# Altium schematic symbol library Schlib.SchLib: 15 symbols
Pins are listed as number, name and electrical type; pins without a type are passive.

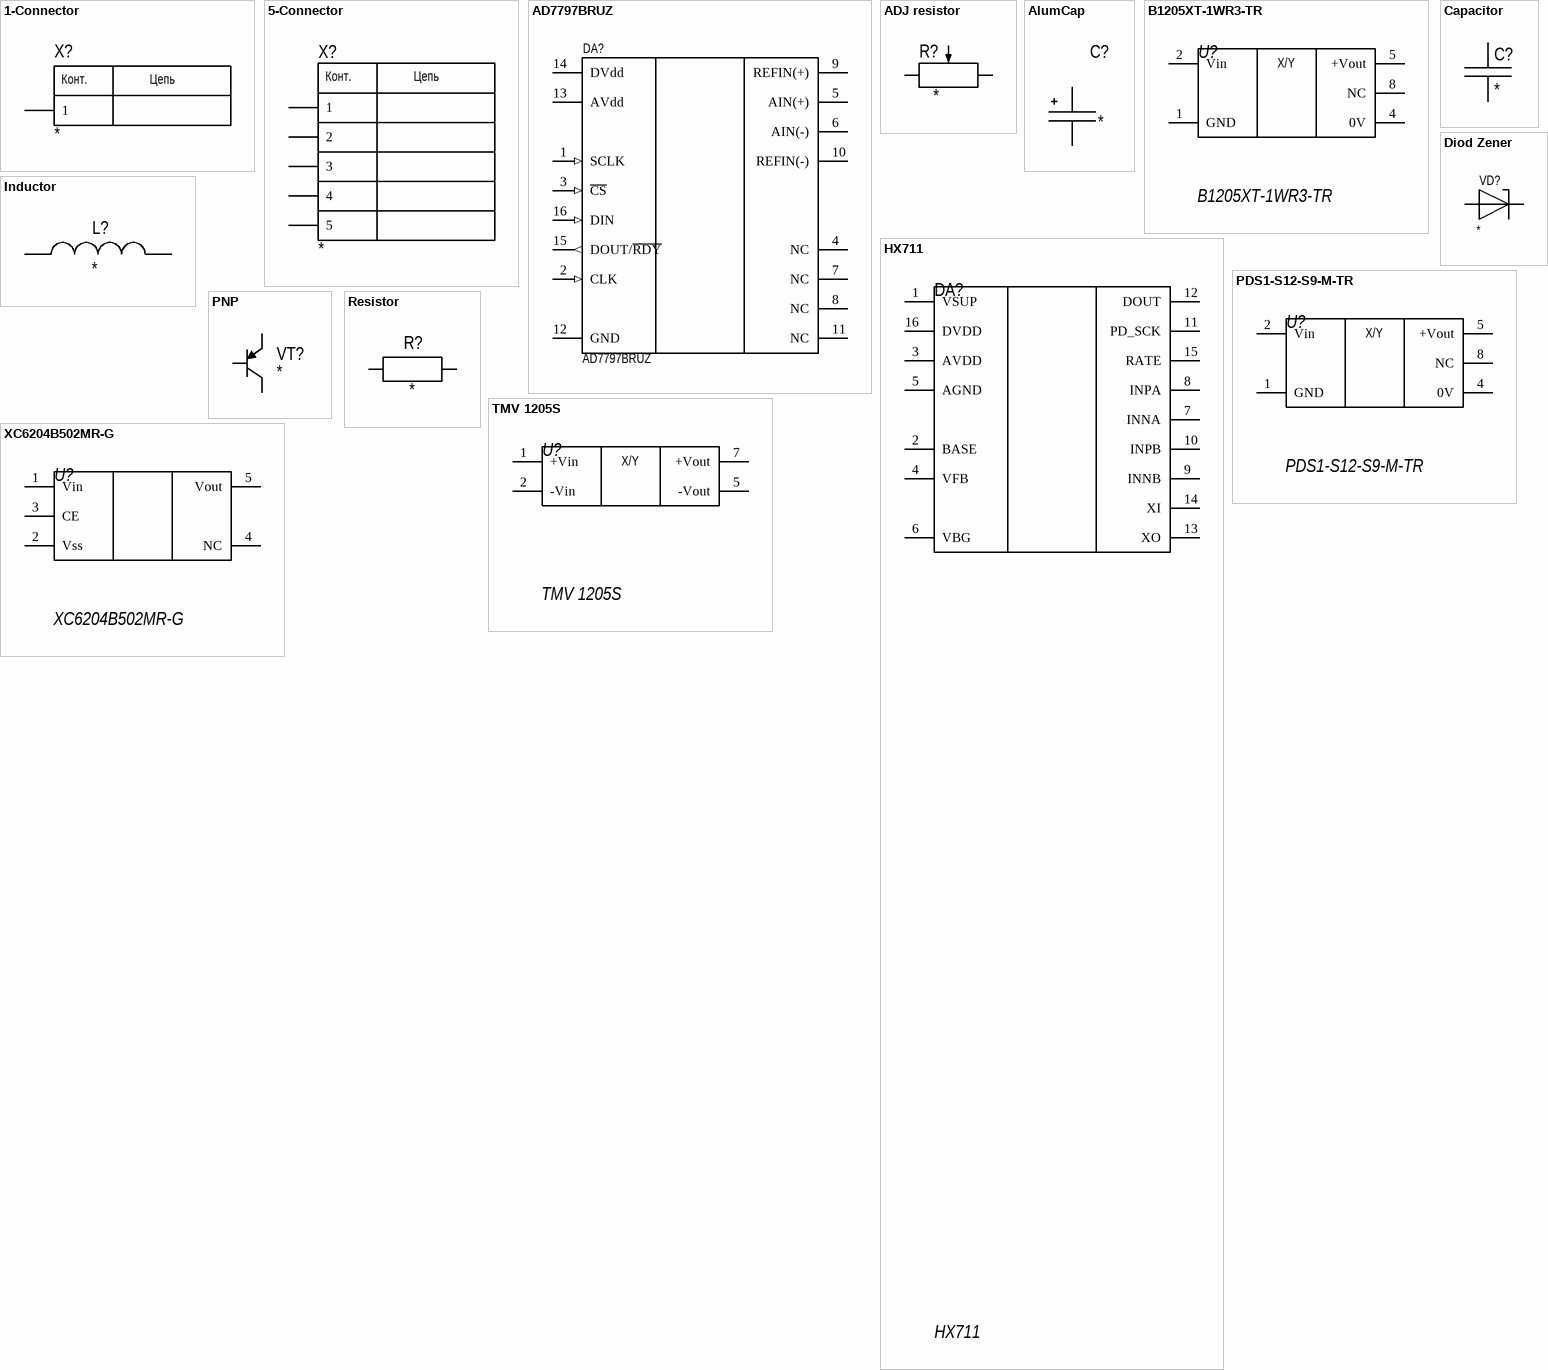
[diagram p0: symbols 1-Connector to XC6204B502MR-G]

## 1-Connector
designator X?
Model: *; Manufacturer: *; HelpURL: *; ComponentKind: *
footprint CON: PADS 1x1mm
pins: 1
text: Конт.; Цепь

## 5-Connector
designator X?
Model: *; Manufacturer: *; HelpURL: *; ComponentKind: *
footprint CON: 796690-5 (5 Position Wire to Board Terminal Block 45°)
pins: 1, 2, 3 (power), 4 (power), 5 (power)
text: Конт.; Цепь

## AD7797BRUZ
designator DA?
ADC 24BIT SIGMA-DELTA; Manufacturer: Analog Devices Inc.; Model: AD7797BRUZ; ComponentKind: 16-TSSOP; HelpURL: https://www.digikey.com/en/products/detail/analog-devices-inc/AD7797BRUZ/1166667
footprint 16-TSSOP
pins: 1 SCLK (in), 2 CLK (in), 3 ~{CS} (in), 4 NC, 5 AIN(+), 6 AIN(-), 7 NC, 8 NC, 9 REFIN(+), 10 REFIN(-), 11 NC, 12 GND (power), 13 AVdd (power), 14 DVdd (power), 15 DOUT/~{RDY} (out), 16 DIN (in)

## ADJ resistor
designator R?
Manufacturer: *; Model: *; HelpURL: *; ComponentKind: *; Value: *
footprint RES: 3296W
footprint RES: 3306F
footprint RES: 3314G
footprint RES: 3362P
footprint RES: B50K
pins: 1, 2, 3

## AlumCap
designator C?
Manufacturer: *; Model: *; HelpURL: *; ComponentKind: *; Value: *
footprint D4C5.1H6
footprint D5C2H11 (Polar capacitor, diameter 5 mm, leads clearance 2 mm, height 11 mm)
footprint D6.3C2.5H11 (Polar capacitor, diameter 6.3 mm, leads clearance 2.5 mm, height 11 mm)
footprint D6.3C2.5H16 (Polar capacitor, diameter 6.3 mm, leads clearance 2.5 mm, height 11 mm)
footprint D6.6C6.6H6.1
footprint D8C3.5H12 (Polar capacitor, diameter 8 mm, leads clearance 3.5 mm, height 12 mm)
footprint D8C3.5H12 (90) (Polar capacitor, diameter 8 mm, leads clearance 3.5 mm, height 12 mm)
footprint D8C6.8H12
footprint D10C4.4H10
footprint D10C5H12.5 (Polar capacitor, diameter 10 mm, leads clearance 5 mm, height 12.5 mm)
footprint D10C5H16 (Polar capacitor, diameter 10 mm, leads clearance 5 mm, height 16 mm)
footprint D10C5H20 (Polar capacitor, diameter 10 mm, leads clearance 5 mm, height 20 mm)
footprint D13C5H20 (Polar capacitor, diameter 13 mm, leads clearance 5 mm, height 20 mm)
footprint D13C5H25 (Polar capacitor, diameter 13 mm, leads clearance 5 mm, height 25 mm)
footprint D16C7.5H25 (Polar capacitor, diameter 16 mm, leads clearance 7.5 mm, height 25 mm)
footprint D16C7.5H31.5 (Polar capacitor, diameter 16 mm, leads clearance 7.5 mm, height 31.5 mm)
footprint D18C7.5H40
footprint D18C7.5H41 (Polar capacitor, diameter 16 mm, leads clearance 7.5 mm, height 31.5 mm)
footprint D22C10.5H25
footprint D25C10H32
footprint D30C10.5H37
footprint D30C10.5H47
footprint D35C10.5H40
footprint D35C10.5H50
pins: 1, 2

## B1205XT-1WR3-TR
designator U?
Isolated Module DC DC Converter 1 Output 5V - - - 200mA 10.8V - 13.2V Input; Manufacturer: Mornsun America, LLC; Model: B1205XT-1WR3-TR; HelpURL: https://www.digikey.com/en/products/detail/mornsun-america-llc/B1205XT-1WR3-TR/13968697; Supplier 1: Digi-Key; Supplier Part Number 1: 2725-B1205XT-1WR3-TRCT-ND
footprint B1205XT-1WR3-TR (DC DC CONVERTER 5V 1W)
pins: 1 GND (power), 2 Vin (power), 4 0V, 5 +Vout, 8 NC
text: X/Y

## Capacitor
designator C?
Manufacturer: *; Model: *; HelpURL: *; ComponentKind: *; Value: *
footprint CH0201C
footprint CH0402C
footprint CH0603C (Chip Capacitor, 2-Leads, Body 1,53x0,85mm, IPC Medium Density)
footprint CH0805C (Chip Capacitor, 2-Leads, Body 2,00x1,20mm, IPC Medium Density)
footprint CH1206C (Non polar chip capacitor, size 1206)
footprint CH1210C (Non polar chip capacitor, size 1210)
footprint CH1812C
footprint CH2220C
pins: 1, 2

## Diod Zener
designator VD?
ComponentKind: *; Manufacturer: *; Model: *; HelpURL: *
footprint SOD-882
pins: 1 A, 2 C

## HX711
designator DA?
ADC for Weigh Scales; Manufacturer: Avia Semiconductors; Model: HX711; ComponentKind: SMD
footprint 16-SOP
pins: 1 VSUP, 2 BASE, 3 AVDD, 4 VFB, 5 AGND, 6 VBG, 7 INNA, 8 INPA, 9 INNB, 10 INPB, 11 PD_SCK, 12 DOUT, 13 XO, 14 XI, 15 RATE, 16 DVDD

## Inductor
designator L?
Manufacturer: *; Model: *; HelpURL: *; ComponentKind: *; Value: *
footprint CH0201L
footprint CH0402L
footprint CH0603L
footprint CH0805L
footprint CH1206F (Chip Resistor, Body 3.2x1.6mm, EIA 1206, IPC Medium Density)
pins: 1, 2

## PDS1-S12-S9-M-TR
designator U?
Isolated Module DC DC Converter 1 Output 9V - - - 111mA 10.8V - 13.2V Input; Manufacturer: CUI Inc.; Model: PDS1-S12-S9-M-TR; HelpURL: https://www.digikey.com/en/products/detail/cui-inc/PDS1-S12-S9-M-TR/4006938; Supplier 1: Digi-Key; Supplier Part Number 1: 2725-B1205XT-1WR3-TRCT-ND
footprint B1205XT-1WR3-TR (DC DC CONVERTER 5V 1W)
pins: 1 GND (power), 2 Vin (power), 4 0V, 5 +Vout, 8 NC
text: X/Y

## PNP
designator VT?
Bipolar; Model: *; Manufacturer: *; ComponentKind: *; HelpURL: *
footprint 8-HSOF
footprint SOT23_123 (SOT23, 3-Leads, Body 3,0x2,6mm (max), Pitch 0,95mm, IPC Medium Density)
footprint SOT23_132 (SOT23, 3-Leads, Body 3,0x2,6mm (max), Pitch 0,95mm, IPC Medium Density)
footprint SOT23_231 (SOT23, 3-Leads, Body 3,0x2,6mm (max), Pitch 0,95mm, IPC Medium Density)
footprint SOT23_321 (SOT23, 3-Leads, Body 3,0x2,6mm (max), Pitch 0,95mm, IPC Medium Density)
footprint SOT89_123 (SOT89, 3-Leads, Body 4,50x2,45mm, Pitch 1,50mm, Lead Span 4,1mm, IPC Medium Density)
footprint SOT89_132 (SOT89, 3-Leads, Body 4,50x2,45mm, Pitch 1,50mm, Lead Span 4,1mm, IPC Medium Density)
footprint SOT223 (SOT223, 4-Leads, Body 6,50x7,00mm (avg), Pitch 2,30mm, IPC Medium Density)
footprint SOT223_1324 (SOT223, 4-Leads, Body 6,50x7,00mm (avg), Pitch 2,30mm, IPC Medium Density)
footprint TO220_123 (Generic TO-220 case, stay variant)
footprint TO220_123_H (Generic TO-220 case, stay variant)
footprint TO220_132 (Generic TO-220 case, stay variant)
footprint TO220_132_H (Generic TO-220 case, stay variant)
footprint TO220_321 (Generic TO-220 case, stay variant)
pins: 1 B, 2 E, 3 C

## Resistor
designator R?
Manufacturer: *; Model: *; HelpURL: *; ComponentKind: *; Value: *
footprint CH0201R
footprint CH0402R
footprint CH0603R
footprint CH0603R - without silc
footprint CH0805R
footprint CH1206R (Chip Resistor, 2-Leads, Body 3,0x1,5mm, IPC Low Density)
footprint CH2010R
footprint CH2512R
pins: 1, 2

## TMV 1205S
designator U?
DC/DC CONVERTER 5V 1W; Manufacturer: Traco Power; Model: TMV 1205S; HelpURL: https://www.digikey.com/en/products/detail/traco-power/TMV-1205S/9383532https://www.digikey.com/en/products/detail/traco-power/TMV-1205S/9383532; Supplier 1: RSComponents; Supplier Part Number 1: 6664032
footprint TMV-1205S (DC DC CONVERTER 5V 1W)
pins: 1 +Vin, 2 -Vin, 5 -Vout, 7 +Vout
text: X/Y

## XC6204B502MR-G
designator U?
Linear Voltage Regulator IC Positive Fixed 1 Output 150mA SOT-25-5; Manufacturer: Torex Semiconductor Ltd; Model: XC6204B502MR-G; HelpURL: https://www.digikey.com/en/products/detail/torex-semiconductor-ltd/XC6204B502MR-G/2138109; Supplier 1: Digi-Key; Supplier Part Number 1: 2725-B1205XT-1WR3-TRCT-ND
footprint SOT23-5 (SOT23, 5-Leads, Body 2,90x2,80mm, Pitch 0,95mm, IPC Medium Density)
pins: 1 Vin (power), 2 Vss (power), 3 CE, 4 NC, 5 Vout